# EAGLE library part 1508ПЛ8Т (library microwave)
АЕЯР.431320.596 ТУ 1508ПЛ8Т - двухканальный цифровой вычислительный синтезатор (DDS) Предназначен для синтеза прямоугольных и гармонических немодулированных и модулированных сигналов в полосе частот до 350 МГц (квадратурных сигналов в полосе частот до 700 МГц), используемых в системах связи и радиолокации. Производитель: ОАО НПЦ «ЭЛВИС», г. Москва. Технические условия: АЕЯР.431320.596 ТУ
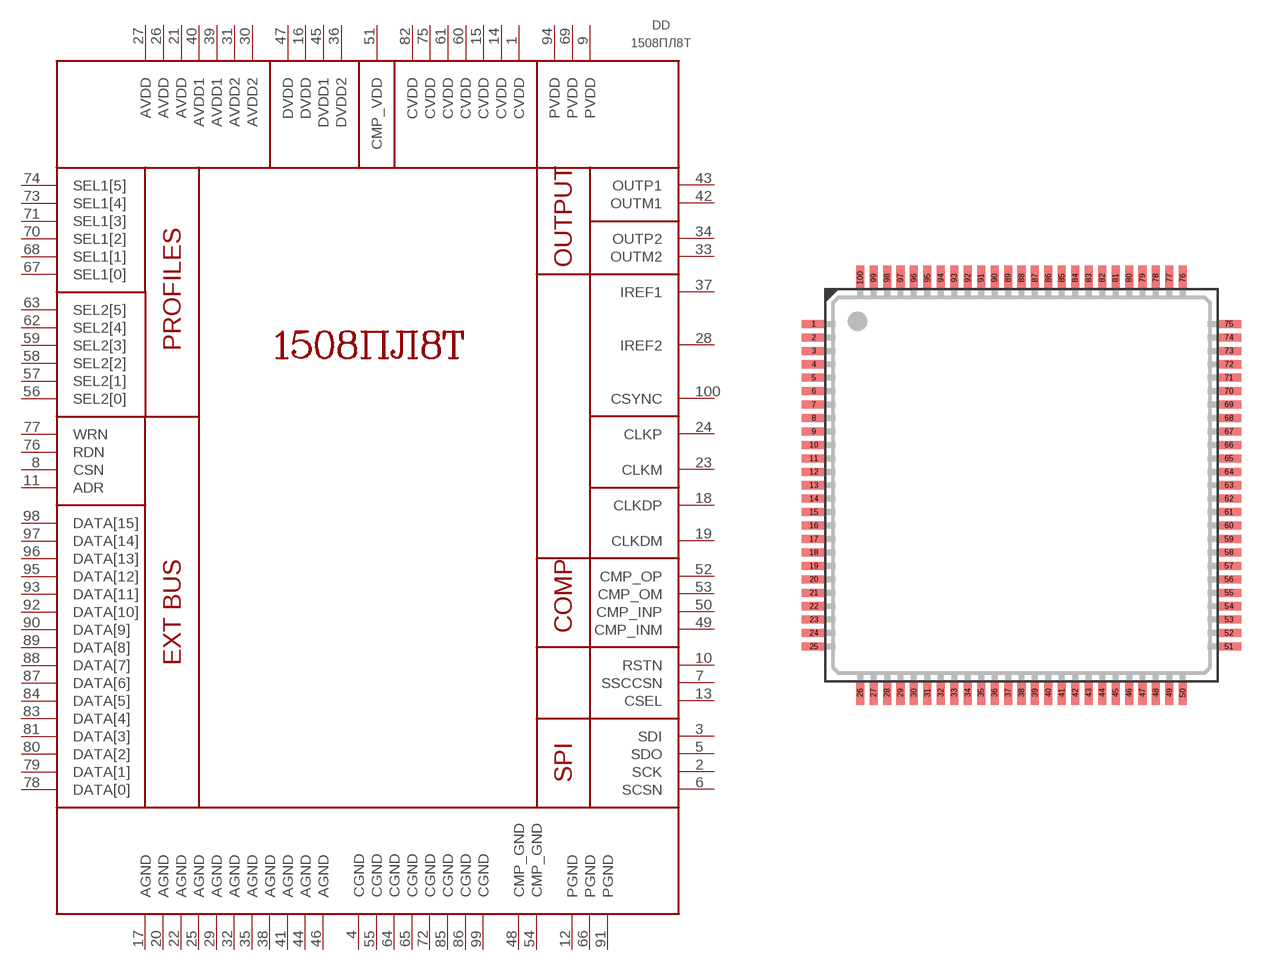
[diagram p3: symbol with the pads of LQFP100; footprint LQFP100]

Designator prefix DD

## 1508ПЛ8Т  [LQFP100]
1  CVDD  pwr
2  SCK
3  SDI
4  CGND  pwr
5  SDO
6  SCSN
7  SSCCSN
8  CSN
9  PVDD  pwr
10  RSTN
11  ADR
12  PGND  pwr
13  CSEL
14  CVDD  pwr
15  CVDD  pwr
16  DVDD  pwr
17  AGND  pwr
18  CLKDP
19  CLKDM
20  AGND  pwr
21  AVDD  pwr
22  AGND  pwr
23  CLKM
24  CLKP
25  AGND  pwr
26  AVDD  pwr
27  AVDD  pwr
28  IREF2
29  AGND  pwr
30  AVDD2  pwr
31  AVDD2  pwr
32  AGND  pwr
33  OUTM2
34  OUTP2
35  AGND  pwr
36  DVDD2  pwr
37  IREF1
38  AGND  pwr
39  AVDD1  pwr
40  AVDD1  pwr
41  AGND  pwr
42  OUTM1
43  OUTP1
44  AGND  pwr
45  DVDD1  pwr
46  AGND  pwr
47  DVDD  pwr
48  CMP_GND  pwr
49  CMP_INM
50  CMP_INP
51  CMP_VDD  pwr
52  CMP_OP
53  CMP_OM
54  CMP_GND  pwr
55  CGND  pwr
56  SEL2[0]
57  SEL2[1]
58  SEL2[2]
59  SEL2[3]
60  CVDD  pwr
61  CVDD  pwr
62  SEL2[4]
63  SEL2[5]
64  CGND  pwr
65  CGND  pwr
66  PGND  pwr
67  SEL1[0]
68  SEL1[1]
69  PVDD  pwr
70  SEL1[2]
71  SEL1[3]
72  CGND  pwr
73  SEL1[4]
74  SEL1[5]
75  CVDD  pwr
76  RDN
77  WRN
78  DATA[0]
79  DATA[1]
80  DATA[2]
81  DATA[3]
82  CVDD  pwr
83  DATA[4]
84  DATA[5]
85  CGND  pwr
86  CGND  pwr
87  DATA[6]
88  DATA[7]
89  DATA[8]
90  DATA[9]
91  PGND  pwr
92  DATA[10]
93  DATA[11]
94  PVDD  pwr
95  DATA[12]
96  DATA[13]
97  DATA[14]
98  DATA[15]
99  CGND  pwr
100  CSYNC

## Footprint LQFP100 (pad centres in mm)
Low Profile Quad Flat Pack
smd 0.9 x 0.3: 1 -7.72,6; 2 -7.72,5.5; 3 -7.72,5; 4 -7.72,4.5; 5 -7.72,4; 6 -7.72,3.5; 7 -7.72,3; 8 -7.72,2.5; 9 -7.72,2; 10 -7.72,1.5; 11 -7.72,1; 12 -7.72,0.5; 13 -7.72,0; 14 -7.72,-0.5; 15 -7.72,-1; 16 -7.72,-1.5; 17 -7.72,-2; 18 -7.72,-2.5; 19 -7.72,-3; 20 -7.72,-3.5; 21 -7.72,-4; 22 -7.72,-4.5; 23 -7.72,-5; 24 -7.72,-5.5; 25 -7.72,-6; 51 7.72,-6; 52 7.72,-5.5; 53 7.72,-5; 54 7.72,-4.5; 55 7.72,-4; 56 7.72,-3.5; 57 7.72,-3; 58 7.72,-2.5; 59 7.72,-2; 60 7.72,-1.5; 61 7.72,-1; 62 7.72,-0.5; 63 7.72,0; 64 7.72,0.5; 65 7.72,1; 66 7.72,1.5; 67 7.72,2; 68 7.72,2.5; 69 7.72,3; 70 7.72,3.5; 71 7.72,4; 72 7.72,4.5; 73 7.72,5; 74 7.72,5.5; 75 7.72,6
smd 0.3 x 0.9: 26 -6,-7.72; 27 -5.5,-7.72; 28 -5,-7.72; 29 -4.5,-7.72; 30 -4,-7.72; 31 -3.5,-7.72; 32 -3,-7.72; 33 -2.5,-7.72; 34 -2,-7.72; 35 -1.5,-7.72; 36 -1,-7.72; 37 -0.5,-7.72; 38 0,-7.72; 39 0.5,-7.72; 40 1,-7.72; 41 1.5,-7.72; 42 2,-7.72; 43 2.5,-7.72; 44 3,-7.72; 45 3.5,-7.72; 46 4,-7.72; 47 4.5,-7.72; 48 5,-7.72; 49 5.5,-7.72; 50 6,-7.72; 76 6,7.72; 77 5.5,7.72; 78 5,7.72; 79 4.5,7.72; 80 4,7.72; 81 3.5,7.72; 82 3,7.72; 83 2.5,7.72; 84 2,7.72; 85 1.5,7.72; 86 1,7.72; 87 0.5,7.72; 88 0,7.72; 89 -0.5,7.72; 90 -1,7.72; 91 -1.5,7.72; 92 -2,7.72; 93 -2.5,7.72; 94 -3,7.72; 95 -3.5,7.72; 96 -4,7.72; 97 -4.5,7.72; 98 -5,7.72; 99 -5.5,7.72; 100 -6,7.72